# EAGLE library part MICS-SMD16 (library con-lumberg)
CONNECTOR
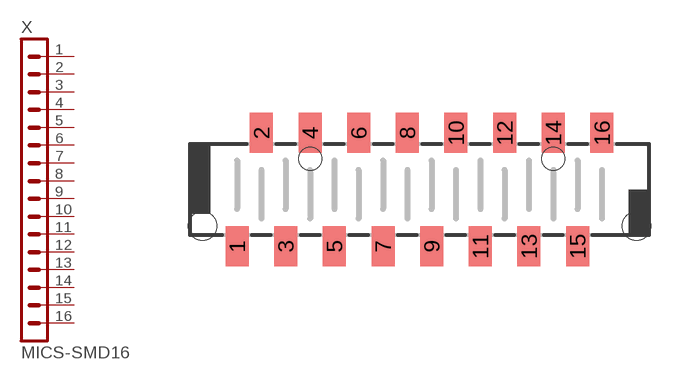
[diagram p11: symbol with the pads of MICSMD16; footprint MICSMD16]

Designator prefix X

## MICS-SMD16 (OC_FARNELL: unknown; OC_NEWARK: unknown)  [MICSMD16]
1  1  pas
2  2  pas
3  3  pas
4  4  pas
5  5  pas
6  6  pas
7  7  pas
8  8  pas
9  9  pas
10  10  pas
11  11  pas
12  12  pas
13  13  pas
14  14  pas
15  15  pas
16  16  pas

## Footprint MICSMD16 (pad centres in mm)
CONNECTOR
smd 1.2 x 2.1: 1 -9.525,-2.959; 2 -8.255,2.959; 3 -6.985,-2.959; 4 -5.715,2.959; 5 -4.445,-2.959; 6 -3.175,2.959; 7 -1.905,-2.959; 8 -0.635,2.959; 9 0.635,-2.959; 10 1.905,2.959; 11 3.175,-2.959; 12 4.445,2.959; 13 5.715,-2.959; 14 6.985,2.959; 15 8.255,-2.959; 16 9.525,2.959
hole 1.5 at 11.325,-1.912
hole 1.5 at -11.325,-1.912
hole 1.2 at -5.715,1.6
hole 1.2 at 6.985,1.6